# Altium footprint library custom-lib.PcbLib: 2 footprints
Each footprint in its own frame and in the unit in brackets; x right, y up, seen from the top. Pads: shape width x height; smd on the part's side, far side on the other; paste and mask are expansions set on the pad; w line width, h text height; cw(c..) or ccw(c..) is an arc to the next point about the centre after c.
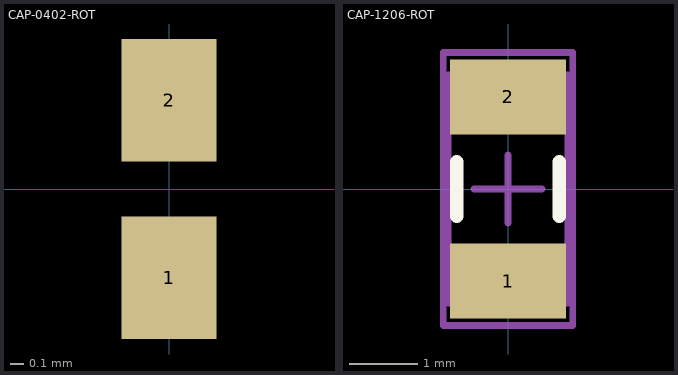
[diagram p0: the footprints below, top view; thin cyan lines are the x and y axes]

## CAP-0402-ROT [mm] "Capacitor, SMD, 0402"
height 0.508
pads (2):
  rect 0.7x0.9 smd: 1(0,-0.65) 2(0,0.65)
3D body: height 0.55, standoff 0, extent -0.25,-0.5 0.25,0.5

## CAP-1206-ROT [mm] "SMD capacitor, 1206"
height 0.635
pads (2):
  rect 1.7x1.1 smd: 1(0,-1.35) 2(0,1.35)
Top Overlay:
  lines w0.2: -0.75,-0.4 -0.75,0.4 ; 0.75,-0.4 0.75,0.4
Mechanical 13:
  lines w0.1: -0.875,-1.675 0.875,-1.675 0.875,1.675 -0.875,1.675 -0.875,-1.675
Mechanical 15:
  lines w0.1: -0.5,0 0.5,0 ; 0,-0.5 0,0.5 ; -0.95,-2 0.95,-2 0.95,2 -0.95,2 -0.95,-2
3D body: height 1, standoff 0, extent -0.8,-1.6 0.8,1.6